# EAGLE library part LM2675-5.0 (library NixieDisplay)
5v 500mA Step Down Switching Regulator
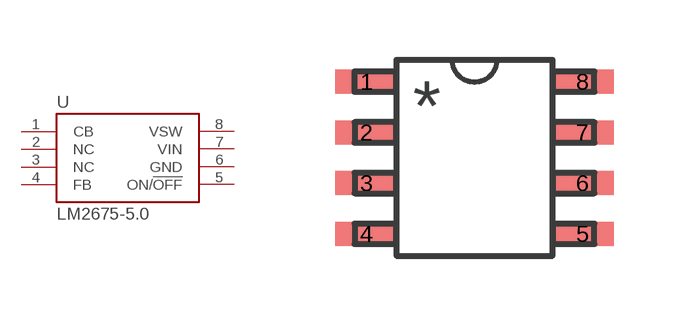
[diagram p6: symbol with the pads of SO-8N; footprint SO-8N]

Designator prefix U

## LM2675-5.0  [SO-8N]
1  CB  pas
2  NC  nc
3  NC  nc
4  FB  pas
5  ON/!OFF  nc
6  GND  pwr
7  VIN  pwr
8  VSW  pwr

## Footprint SO-8N (pad centres in mm)
smd 1.55 x 0.6: 1 -2.7,1.905; 2 -2.7,0.635; 3 -2.7,-0.635; 4 -2.7,-1.905; 5 2.7,-1.905; 6 2.7,-0.635; 7 2.7,0.635; 8 2.7,1.905